# Altium footprint library Macronix.PcbLib: 1 footprints
Each footprint in its own frame and in the unit in brackets; x right, y up, seen from the top. Pads: shape width x height; smd on the part's side, far side on the other; paste and mask are expansions set on the pad; w line width, h text height; cw(c..) or ccw(c..) is an arc to the next point about the centre after c.
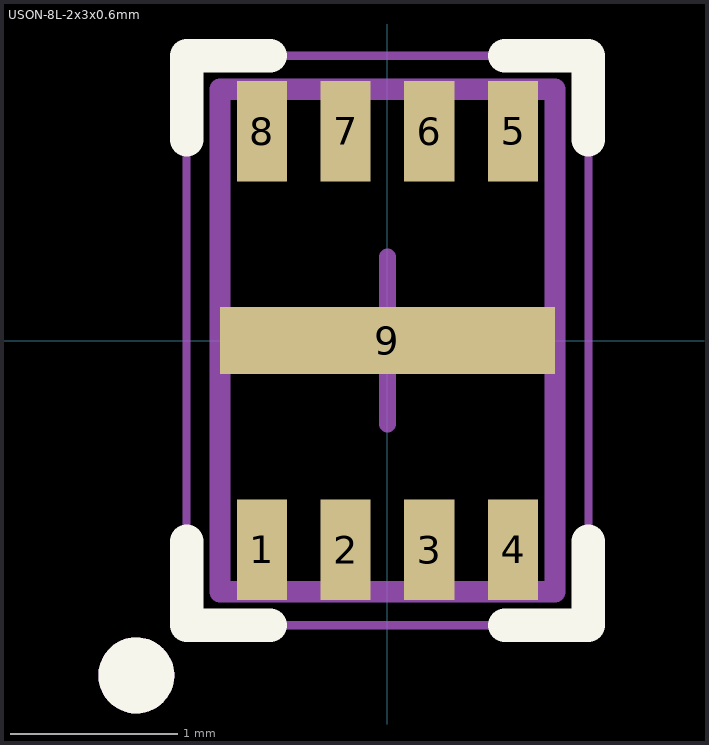
[diagram p0: the footprint, top view; thin cyan lines are the x and y axes]

## USON-8L-2x3x0.6mm [mm]
pads (9):
  rect 0.3x0.6 smd paste-0.05 mask+0.05: 1(-0.75,-1.25) 2(-0.25,-1.25) 3(0.25,-1.25) 4(0.75,-1.25) 5(0.75,1.25) 6(0.25,1.25) 7(-0.25,1.25) 8(-0.75,1.25)
  rect 2x0.4 smd paste-0.05 mask+0.05: 9(0,0)
Top Overlay:
  circle w0.254: c-1.5,-2 r0.1
  lines w0.2: -1.2,-1.2 -1.2,-1.7 -0.7,-1.7 ; -1.2,1.2 -1.2,1.7 -0.7,1.7 ; 0.7,-1.7 1.2,-1.7 1.2,-1.2 ; 0.7,1.7 1.2,1.7 1.2,1.2
Top 3D Body (Mech13):
  circle w0.254: c-1.5,-2 r0.1
  lines w0.127: -1,-1.5 -1,1.5 1,1.5 1,-1.5 -1,-1.5
Mechanical 15:
  lines w0.05: -1.2,-1.7 -1.2,1.7 1.2,1.7 1.2,-1.7 -1.2,-1.7
  lines w0.1: -0.5,0 0.5,0 ; 0,-0.5 0,0.5
3D body: height 0.6, standoff 0, extent -1,-1.5 1,1.5